# Altium schematic symbol library C1206C102KGRACAUTO.SchLib: 1 symbol
Pins are listed as number, name and electrical type; pins without a type are passive.

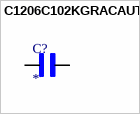
[diagram p0: symbol C1206C102KGRACAUTO]

## C1206C102KGRACAUTO
designator C?
1000 pF Â±10% 2000V (2kV) Ceramic Capacitor X7R 1206 (3216 Metric); MF: KEMET; MP: C1206C102KGRACAUTO; SnapEDA_Link: https://www.snapeda.com/parts/C1206C102KGRACAUTO/KEMET/view-part/?ref=snap; Package: 3216 KEMET; Value: *; Check_prices: https://www.snapeda.com/parts/C1206C102KGRACAUTO/KEMET/view-part/?ref=eda
footprint CAPC3216X175N
pins: 1, 2